# Altium integrated library Diodes - TVS.IntLib: 5379 symbols (part 39 of 122)
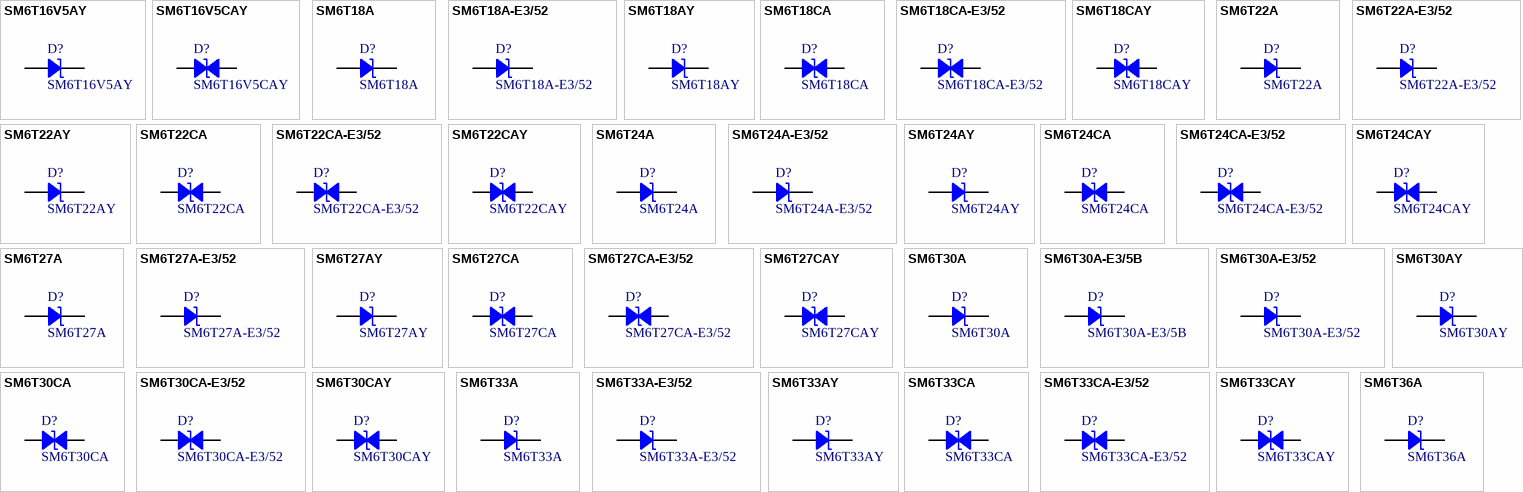
[diagram p172: symbols SM6T16V5AY to SM6T36A]

## SM6T18AY
designator D?
TVS DIODE 15.3V 32.5V SMB; Manufacturer: STMicroelectronics; Current - Peak Pulse (10/1000µs): 123A (8/20µs); Power Line Protection: No; Power - Peak Pulse: 600W; Type: Zener; Unidirectional Channels: 1; Voltage - Breakdown (Min): 17.1V; Part Number: SM6T18AY; Applications: Automotive; ComponentLink1Description: Datasheet; ComponentLink1URL: http://www.st.com/content/ccc/resource/technical/document/datasheet/7c/00/1c/38/a4/c1/4b/ae/CD00279657.pdf/files/CD00279657.pdf/jcr:content/translations/en.CD00279657.pdf; ComponentLink2Description: DigiKey Link; ComponentLink2URL: http://digikey.com/product-detail/en/stmicroelectronics/SM6T18AY/497-10795-1-ND/2442955; LastUpdated: 9/2/2020 1:19:48 AM; Lifecycle Status: Active; Minimum Order: 1; Mounting Type: Surface Mount; Operating Temperature: -55°C ~ 150°C (TJ); Package / Case: DO-214AA, SMB; Packaging: TapeAndReel; PartId: 11002; Part Status: Active; Price: 0.37; Series: Automotive, AEC-Q101, SM6TY, TRANSIL™; Supplier 1: DigiKey; Supplier Part Number 1: 497-10795-1-ND; Supplier Device Package: SMB (DO-214AA); Voltage - Clamping (Max) @ Ipp: 32.5V; Voltage - Reverse Standoff (Typ): 15.3V
footprint DO214AA SMB
pins: 1, 2

## SM6T18CA
designator D?
TVS DIODE 15.3V 32.5V SMB; Manufacturer: STMicroelectronics; Bidirectional Channels: 1; Current - Peak Pulse (10/1000µs): 123A (8/20µs); Power Line Protection: No; Power - Peak Pulse: 600W; Type: Zener; Voltage - Breakdown (Min): 17.1V; Part Number: SM6T18CA; Applications: General Purpose; ComponentLink1Description: Datasheet; ComponentLink1URL: http://www.st.com/content/ccc/resource/technical/document/datasheet/6f/2d/a6/9e/56/51/48/15/CD00000725.pdf/files/CD00000725.pdf/jcr:content/translations/en.CD00000725.pdf; ComponentLink2Description: DigiKey Link; ComponentLink2URL: http://digikey.com/product-detail/en/stmicroelectronics/SM6T18CA/497-3717-1-ND/686435; LastUpdated: 9/2/2020 1:28:17 AM; Lifecycle Status: Active; Minimum Order: 1; Mounting Type: Surface Mount; Operating Temperature: -55°C ~ 150°C (TJ); Package / Case: DO-214AA, SMB; Packaging: TapeAndReel; PartId: 9110; Part Status: Active; Price: 0.16; Series: SM6T, TRANSIL™; Supplier 1: DigiKey; Supplier Part Number 1: 497-3717-1-ND; Supplier Device Package: SMB (DO-214AA); Voltage - Clamping (Max) @ Ipp: 32.5V; Voltage - Reverse Standoff (Typ): 15.3V
footprint DO214AA SMB
pins: 1, 2

## SM6T18CA-E3/52
designator D?
TVS DIODE 15.3V 25.2V DO214AA; Manufacturer: Vishay Semiconductor Diodes Division; Bidirectional Channels: 1; Current - Peak Pulse (10/1000µs): 24A; Power Line Protection: No; Power - Peak Pulse: 600W; Type: Zener; Voltage - Breakdown (Min): 17.1V; Part Number: SM6T18CA-E3/52; Applications: General Purpose; ComponentLink1Description: Datasheet; ComponentLink1URL: http://www.vishay.com/docs/88385/sm6t.pdf; ComponentLink2Description: DigiKey Link; ComponentLink2URL: http://digikey.com/product-detail/en/vishay-semiconductor-diodes-division/SM6T18CA-E3-52/SM6T18CA-E3-52GICT-ND/2413416; LastUpdated: 9/2/2020 1:28:22 AM; Lifecycle Status: Active; Minimum Order: 1; Mounting Type: Surface Mount; Operating Temperature: -65°C ~ 150°C (TJ); Package / Case: DO-214AA, SMB; Packaging: TapeAndReel; PartId: 9684; Part Status: Active; Price: 0.22; Series: SM6T, TransZorb®; Supplier 1: DigiKey; Supplier Part Number 1: SM6T18CA-E3/52GICT-ND; Supplier Device Package: DO-214AA (SMBJ); Voltage - Clamping (Max) @ Ipp: 25.2V; Voltage - Reverse Standoff (Typ): 15.3V
footprint DO214AA SMB
pins: 1, 2

## SM6T18CAY
designator D?
TVS DIODE 15.3V 32.5V SMB; Manufacturer: STMicroelectronics; Bidirectional Channels: 1; Current - Peak Pulse (10/1000µs): 123A (8/20µs); Power Line Protection: No; Power - Peak Pulse: 600W; Type: Zener; Voltage - Breakdown (Min): 17.1V; Part Number: SM6T18CAY; Applications: Automotive; ComponentLink1Description: Datasheet; ComponentLink1URL: http://www.st.com/content/ccc/resource/technical/document/datasheet/7c/00/1c/38/a4/c1/4b/ae/CD00279657.pdf/files/CD00279657.pdf/jcr:content/translations/en.CD00279657.pdf; ComponentLink2Description: DigiKey Link; ComponentLink2URL: http://digikey.com/product-detail/en/stmicroelectronics/SM6T18CAY/497-10796-1-ND/2442964; LastUpdated: 9/2/2020 1:28:21 AM; Lifecycle Status: Active; Minimum Order: 1; Mounting Type: Surface Mount; Operating Temperature: -55°C ~ 150°C (TJ); Package / Case: DO-214AA, SMB; Packaging: TapeAndReel; PartId: 9566; Part Status: Active; Price: 0.39; Series: Automotive, AEC-Q101, SM6TY, TRANSIL™; Supplier 1: DigiKey; Supplier Part Number 1: 497-10796-1-ND; Supplier Device Package: SMB (DO-214AA); Voltage - Clamping (Max) @ Ipp: 32.5V; Voltage - Reverse Standoff (Typ): 15.3V
footprint DO214AA SMB
pins: 1, 2

## SM6T22A
designator D?
TVS DIODE 18.8V 30.6V SMB; Manufacturer: STMicroelectronics; Current - Peak Pulse (10/1000µs): 102A (8/20µs); Power Line Protection: No; Power - Peak Pulse: 600W; Type: Zener; Unidirectional Channels: 1; Voltage - Breakdown (Min): 20.9V; Part Number: SM6T22A; Applications: General Purpose; ComponentLink1Description: Datasheet; ComponentLink1URL: http://www.st.com/content/ccc/resource/technical/document/datasheet/6f/2d/a6/9e/56/51/48/15/CD00000725.pdf/files/CD00000725.pdf/jcr:content/translations/en.CD00000725.pdf; ComponentLink2Description: DigiKey Link; ComponentLink2URL: http://digikey.com/product-detail/en/stmicroelectronics/SM6T22A/497-6491-1-ND/1865480; LastUpdated: 9/2/2020 1:19:49 AM; Lifecycle Status: Active; Minimum Order: 1; Mounting Type: Surface Mount; Operating Temperature: -55°C ~ 150°C (TJ); Package / Case: DO-214AA, SMB; Packaging: TapeAndReel; PartId: 11199; Part Status: Active; Price: 0.15; Series: SM6T, TRANSIL™; Supplier 1: DigiKey; Supplier Part Number 1: 497-6491-1-ND; Supplier Device Package: SMB (DO-214AA); Voltage - Clamping (Max) @ Ipp: 30.6V; Voltage - Reverse Standoff (Typ): 18.8V
footprint DO214AA SMB
pins: 1, 2

## SM6T22A-E3/52
designator D?
TVS DIODE 18.8V 30.6V DO214AA; Manufacturer: Vishay Semiconductor Diodes Division; Current - Peak Pulse (10/1000µs): 20A; Power Line Protection: No; Power - Peak Pulse: 600W; Type: Zener; Unidirectional Channels: 1; Voltage - Breakdown (Min): 20.9V; Part Number: SM6T22A-E3/52; Applications: General Purpose; ComponentLink1Description: Datasheet; ComponentLink1URL: http://www.vishay.com/docs/88385/sm6t.pdf; ComponentLink2Description: DigiKey Link; ComponentLink2URL: http://digikey.com/product-detail/en/vishay-semiconductor-diodes-division/SM6T22A-E3-52/SM6T22A-E3-52GICT-ND/5639132; LastUpdated: 9/2/2020 1:19:43 AM; Lifecycle Status: Active; Minimum Order: 1; Mounting Type: Surface Mount; Operating Temperature: -65°C ~ 150°C (TJ); Package / Case: DO-214AA, SMB; Packaging: TapeAndReel; PartId: 10593; Part Status: Active; Price: 0.19; Series: SM6T, TransZorb®; Supplier 1: DigiKey; Supplier Part Number 1: SM6T22A-E3/52GICT-ND; Supplier Device Package: DO-214AA (SMBJ); Voltage - Clamping (Max) @ Ipp: 30.6V; Voltage - Reverse Standoff (Typ): 18.8V
footprint DO214AA SMB
pins: 1, 2

## SM6T22AY
designator D?
TVS DIODE 18.8V 30.6V SMB; Manufacturer: STMicroelectronics; Current - Peak Pulse (10/1000µs): 102A (8/20µs); Power Line Protection: No; Power - Peak Pulse: 600W; Type: Zener; Unidirectional Channels: 1; Voltage - Breakdown (Min): 20.9V; Part Number: SM6T22AY; Applications: Automotive; ComponentLink1Description: Datasheet; ComponentLink1URL: http://www.st.com/content/ccc/resource/technical/document/datasheet/7c/00/1c/38/a4/c1/4b/ae/CD00279657.pdf/files/CD00279657.pdf/jcr:content/translations/en.CD00279657.pdf; ComponentLink2Description: DigiKey Link; ComponentLink2URL: http://digikey.com/product-detail/en/stmicroelectronics/SM6T22AY/497-10933-1-ND/2522556; LastUpdated: 9/2/2020 1:19:46 AM; Lifecycle Status: Active; Minimum Order: 1; Mounting Type: Surface Mount; Operating Temperature: -55°C ~ 150°C (TJ); Package / Case: DO-214AA, SMB; Packaging: TapeAndReel; PartId: 10815; Part Status: Active; Price: 0.39; Series: Automotive, AEC-Q101, SM6TY, TRANSIL™; Supplier 1: DigiKey; Supplier Part Number 1: 497-10933-1-ND; Supplier Device Package: SMB (DO-214AA); Voltage - Clamping (Max) @ Ipp: 30.6V; Voltage - Reverse Standoff (Typ): 18.8V
footprint DO214AA SMB
pins: 1, 2

## SM6T22CA
designator D?
TVS DIODE 18.8V 30.6V SMB; Manufacturer: STMicroelectronics; Bidirectional Channels: 1; Current - Peak Pulse (10/1000µs): 102A (8/20µs); Power Line Protection: No; Power - Peak Pulse: 600W; Type: Zener; Voltage - Breakdown (Min): 20.9V; Part Number: SM6T22CA; Applications: General Purpose; ComponentLink1Description: Datasheet; ComponentLink1URL: http://www.st.com/content/ccc/resource/technical/document/datasheet/6f/2d/a6/9e/56/51/48/15/CD00000725.pdf/files/CD00000725.pdf/jcr:content/translations/en.CD00000725.pdf; ComponentLink2Description: DigiKey Link; ComponentLink2URL: http://digikey.com/product-detail/en/stmicroelectronics/SM6T22CA/497-3507-1-ND/669350; LastUpdated: 9/2/2020 1:28:21 AM; Lifecycle Status: Active; Minimum Order: 1; Mounting Type: Surface Mount; Operating Temperature: -55°C ~ 150°C (TJ); Package / Case: DO-214AA, SMB; Packaging: TapeAndReel; PartId: 9520; Part Status: Active; Price: 0.16; Series: SM6T, TRANSIL™; Supplier 1: DigiKey; Supplier Part Number 1: 497-3507-1-ND; Supplier Device Package: SMB (DO-214AA); Voltage - Clamping (Max) @ Ipp: 30.6V; Voltage - Reverse Standoff (Typ): 18.8V
footprint DO214AA SMB
pins: 1, 2

## SM6T22CA-E3/52
designator D?
TVS DIODE 18.8V 30.6V DO214AA; Manufacturer: Vishay Semiconductor Diodes Division; Bidirectional Channels: 1; Current - Peak Pulse (10/1000µs): 20A; Power Line Protection: No; Power - Peak Pulse: 600W; Type: Zener; Voltage - Breakdown (Min): 20.9V; Part Number: SM6T22CA-E3/52; Applications: General Purpose; ComponentLink1Description: Datasheet; ComponentLink1URL: http://www.vishay.com/docs/88385/sm6t.pdf; ComponentLink2Description: DigiKey Link; ComponentLink2URL: http://digikey.com/product-detail/en/vishay-semiconductor-diodes-division/SM6T22CA-E3-52/SM6T22CA-E3-52GICT-ND/5639133; LastUpdated: 9/2/2020 1:28:17 AM; Lifecycle Status: Active; Minimum Order: 1; Mounting Type: Surface Mount; Operating Temperature: -65°C ~ 150°C (TJ); Package / Case: DO-214AA, SMB; Packaging: TapeAndReel; PartId: 9021; Part Status: Active; Price: 0.22; Series: SM6T, TransZorb®; Supplier 1: DigiKey; Supplier Part Number 1: SM6T22CA-E3/52GICT-ND; Supplier Device Package: DO-214AA (SMBJ); Voltage - Clamping (Max) @ Ipp: 30.6V; Voltage - Reverse Standoff (Typ): 18.8V
footprint DO214AA SMB
pins: 1, 2

## SM6T22CAY
designator D?
TVS DIODE 18.8V 30.6V SMB; Manufacturer: STMicroelectronics; Bidirectional Channels: 1; Current - Peak Pulse (10/1000µs): 102A (8/20µs); Power Line Protection: No; Power - Peak Pulse: 600W; Type: Zener; Voltage - Breakdown (Min): 20.9V; Part Number: SM6T22CAY; Applications: Automotive; ComponentLink1Description: Datasheet; ComponentLink1URL: http://www.st.com/content/ccc/resource/technical/document/datasheet/7c/00/1c/38/a4/c1/4b/ae/CD00279657.pdf/files/CD00279657.pdf/jcr:content/translations/en.CD00279657.pdf; ComponentLink2Description: DigiKey Link; ComponentLink2URL: http://digikey.com/product-detail/en/stmicroelectronics/SM6T22CAY/497-10934-1-ND/2522557; LastUpdated: 9/2/2020 1:28:21 AM; Lifecycle Status: Active; Minimum Order: 1; Mounting Type: Surface Mount; Operating Temperature: -55°C ~ 150°C (TJ); Package / Case: DO-214AA, SMB; Packaging: TapeAndReel; PartId: 9563; Part Status: Active; Price: 0.41; Series: Automotive, AEC-Q101, SM6TY, TRANSIL™; Supplier 1: DigiKey; Supplier Part Number 1: 497-10934-1-ND; Supplier Device Package: SMB (DO-214AA); Voltage - Clamping (Max) @ Ipp: 30.6V; Voltage - Reverse Standoff (Typ): 18.8V
footprint DO214AA SMB
pins: 1, 2

## SM6T24A
designator D?
TVS DIODE 20.5V 42.8V SMB; Manufacturer: STMicroelectronics; Current - Peak Pulse (10/1000µs): 93A (8/20µs); Power Line Protection: No; Power - Peak Pulse: 600W; Type: Zener; Unidirectional Channels: 1; Voltage - Breakdown (Min): 22.8V; Part Number: SM6T24A; Applications: General Purpose; ComponentLink1Description: Datasheet; ComponentLink1URL: http://www.st.com/content/ccc/resource/technical/document/datasheet/6f/2d/a6/9e/56/51/48/15/CD00000725.pdf/files/CD00000725.pdf/jcr:content/translations/en.CD00000725.pdf; ComponentLink2Description: DigiKey Link; ComponentLink2URL: http://digikey.com/product-detail/en/stmicroelectronics/SM6T24A/497-7433-1-ND/1883435; LastUpdated: 9/2/2020 1:19:47 AM; Lifecycle Status: Active; Minimum Order: 1; Mounting Type: Surface Mount; Operating Temperature: -55°C ~ 150°C (TJ); Package / Case: DO-214AA, SMB; Packaging: TapeAndReel; PartId: 10932; Part Status: Active; Price: 0.15; Series: SM6T, TRANSIL™; Supplier 1: DigiKey; Supplier Part Number 1: 497-7433-1-ND; Supplier Device Package: SMB (DO-214AA); Voltage - Clamping (Max) @ Ipp: 42.8V; Voltage - Reverse Standoff (Typ): 20.5V
footprint DO214AA SMB
pins: 1, 2

## SM6T24A-E3/52
designator D?
TVS DIODE 20.5V 33.2V DO214AA; Manufacturer: Vishay Semiconductor Diodes Division; Current - Peak Pulse (10/1000µs): 18A; Power Line Protection: No; Power - Peak Pulse: 600W; Type: Zener; Unidirectional Channels: 1; Voltage - Breakdown (Min): 22.8V; Part Number: SM6T24A-E3/52; Applications: General Purpose; ComponentLink1Description: Datasheet; ComponentLink1URL: http://www.vishay.com/docs/88385/sm6t.pdf; ComponentLink2Description: DigiKey Link; ComponentLink2URL: http://digikey.com/product-detail/en/vishay-semiconductor-diodes-division/SM6T24A-E3-52/SM6T24A-E3-52GICT-ND/5639134; LastUpdated: 9/2/2020 1:19:45 AM; Lifecycle Status: Active; Minimum Order: 1; Mounting Type: Surface Mount; Operating Temperature: -65°C ~ 150°C (TJ); Package / Case: DO-214AA, SMB; Packaging: TapeAndReel; PartId: 10767; Part Status: Active; Price: 0.19; Series: SM6T, TransZorb®; Supplier 1: DigiKey; Supplier Part Number 1: SM6T24A-E3/52GICT-ND; Supplier Device Package: DO-214AA (SMBJ); Voltage - Clamping (Max) @ Ipp: 33.2V; Voltage - Reverse Standoff (Typ): 20.5V
footprint DO214AA SMB
pins: 1, 2

## SM6T24AY
designator D?
TVS DIODE 20.5V 42.8V SMB; Manufacturer: STMicroelectronics; Current - Peak Pulse (10/1000µs): 93A (8/20µs); Power Line Protection: No; Power - Peak Pulse: 600W; Type: Zener; Unidirectional Channels: 1; Voltage - Breakdown (Min): 22.8V; Part Number: SM6T24AY; Applications: Automotive; ComponentLink1Description: Datasheet; ComponentLink1URL: http://www.st.com/content/ccc/resource/technical/document/datasheet/7c/00/1c/38/a4/c1/4b/ae/CD00279657.pdf/files/CD00279657.pdf/jcr:content/translations/en.CD00279657.pdf; ComponentLink2Description: DigiKey Link; ComponentLink2URL: http://digikey.com/product-detail/en/stmicroelectronics/SM6T24AY/497-10935-1-ND/2522558; LastUpdated: 9/2/2020 1:19:50 AM; Lifecycle Status: Active; Minimum Order: 1; Mounting Type: Surface Mount; Operating Temperature: -55°C ~ 150°C (TJ); Package / Case: DO-214AA, SMB; Packaging: TapeAndReel; PartId: 11276; Part Status: Active; Price: 0.39; Series: Automotive, AEC-Q101, SM6TY, TRANSIL™; Supplier 1: DigiKey; Supplier Part Number 1: 497-10935-1-ND; Supplier Device Package: SMB (DO-214AA); Voltage - Clamping (Max) @ Ipp: 42.8V; Voltage - Reverse Standoff (Typ): 20.5V
footprint DO214AA SMB
pins: 1, 2

## SM6T24CA
designator D?
TVS DIODE 20.5V 42.8V SMB; Manufacturer: STMicroelectronics; Bidirectional Channels: 1; Current - Peak Pulse (10/1000µs): 93A (8/20µs); Power Line Protection: No; Power - Peak Pulse: 600W; Type: Zener; Voltage - Breakdown (Min): 22.8V; Part Number: SM6T24CA; Applications: General Purpose; ComponentLink1Description: Datasheet; ComponentLink1URL: http://www.st.com/content/ccc/resource/technical/document/datasheet/6f/2d/a6/9e/56/51/48/15/CD00000725.pdf/files/CD00000725.pdf/jcr:content/translations/en.CD00000725.pdf; ComponentLink2Description: DigiKey Link; ComponentLink2URL: http://digikey.com/product-detail/en/stmicroelectronics/SM6T24CA/497-7434-1-ND/1883426; LastUpdated: 9/2/2020 1:28:21 AM; Lifecycle Status: Active; Minimum Order: 1; Mounting Type: Surface Mount; Operating Temperature: -55°C ~ 150°C (TJ); Package / Case: DO-214AA, SMB; Packaging: TapeAndReel; PartId: 9470; Part Status: Active; Price: 0.16; Series: SM6T, TRANSIL™; Supplier 1: DigiKey; Supplier Part Number 1: 497-7434-1-ND; Supplier Device Package: SMB (DO-214AA); Voltage - Clamping (Max) @ Ipp: 42.8V; Voltage - Reverse Standoff (Typ): 20.5V
footprint DO214AA SMB
pins: 1, 2

## SM6T24CA-E3/52
designator D?
TVS DIODE 20.5V 33.2V DO214AA; Manufacturer: Vishay Semiconductor Diodes Division; Bidirectional Channels: 1; Current - Peak Pulse (10/1000µs): 18A; Power Line Protection: No; Power - Peak Pulse: 600W; Type: Zener; Voltage - Breakdown (Min): 22.8V; Part Number: SM6T24CA-E3/52; Applications: General Purpose; ComponentLink1Description: Datasheet; ComponentLink1URL: http://www.vishay.com/docs/88385/sm6t.pdf; ComponentLink2Description: DigiKey Link; ComponentLink2URL: http://digikey.com/product-detail/en/vishay-semiconductor-diodes-division/SM6T24CA-E3-52/SM6T24CA-E3-52GICT-ND/5639135; LastUpdated: 9/2/2020 1:28:21 AM; Lifecycle Status: Active; Minimum Order: 1; Mounting Type: Surface Mount; Operating Temperature: -65°C ~ 150°C (TJ); Package / Case: DO-214AA, SMB; Packaging: TapeAndReel; PartId: 9601; Part Status: Active; Price: 0.22; Series: SM6T, TransZorb®; Supplier 1: DigiKey; Supplier Part Number 1: SM6T24CA-E3/52GICT-ND; Supplier Device Package: DO-214AA (SMBJ); Voltage - Clamping (Max) @ Ipp: 33.2V; Voltage - Reverse Standoff (Typ): 20.5V
footprint DO214AA SMB
pins: 1, 2

## SM6T24CAY
designator D?
TVS DIODE 20.5V 42.8V SMB; Manufacturer: STMicroelectronics; Bidirectional Channels: 1; Current - Peak Pulse (10/1000µs): 93A (8/20µs); Power Line Protection: No; Power - Peak Pulse: 600W; Type: Zener; Voltage - Breakdown (Min): 22.8V; Part Number: SM6T24CAY; Applications: Automotive; ComponentLink1Description: Datasheet; ComponentLink1URL: http://www.st.com/content/ccc/resource/technical/document/datasheet/7c/00/1c/38/a4/c1/4b/ae/CD00279657.pdf/files/CD00279657.pdf/jcr:content/translations/en.CD00279657.pdf; ComponentLink2Description: DigiKey Link; ComponentLink2URL: http://digikey.com/product-detail/en/stmicroelectronics/SM6T24CAY/497-10936-1-ND/2522559; LastUpdated: 9/2/2020 1:28:21 AM; Lifecycle Status: Active; Minimum Order: 1; Mounting Type: Surface Mount; Operating Temperature: -55°C ~ 150°C (TJ); Package / Case: DO-214AA, SMB; Packaging: TapeAndReel; PartId: 9558; Part Status: Active; Price: 0.41; Series: Automotive, AEC-Q101, SM6TY, TRANSIL™; Supplier 1: DigiKey; Supplier Part Number 1: 497-10936-1-ND; Supplier Device Package: SMB (DO-214AA); Voltage - Clamping (Max) @ Ipp: 42.8V; Voltage - Reverse Standoff (Typ): 20.5V
footprint DO214AA SMB
pins: 1, 2

## SM6T27A
designator D?
TVS DIODE 23.1V 48.3V SMB; Manufacturer: STMicroelectronics; Current - Peak Pulse (10/1000µs): 83A (8/20µs); Power Line Protection: No; Power - Peak Pulse: 600W; Type: Zener; Unidirectional Channels: 1; Voltage - Breakdown (Min): 25.7V; Part Number: SM6T27A; Applications: General Purpose; ComponentLink1Description: Datasheet; ComponentLink1URL: http://www.st.com/content/ccc/resource/technical/document/datasheet/6f/2d/a6/9e/56/51/48/15/CD00000725.pdf/files/CD00000725.pdf/jcr:content/translations/en.CD00000725.pdf; ComponentLink2Description: DigiKey Link; ComponentLink2URL: http://digikey.com/product-detail/en/stmicroelectronics/SM6T27A/497-7435-1-ND/1883447; LastUpdated: 9/2/2020 1:19:49 AM; Lifecycle Status: Active; Minimum Order: 1; Mounting Type: Surface Mount; Operating Temperature: -55°C ~ 150°C (TJ); Package / Case: DO-214AA, SMB; Packaging: TapeAndReel; PartId: 11196; Part Status: Active; Price: 0.15; Series: SM6T, TRANSIL™; Supplier 1: DigiKey; Supplier Part Number 1: 497-7435-1-ND; Supplier Device Package: SMB (DO-214AA); Voltage - Clamping (Max) @ Ipp: 48.3V; Voltage - Reverse Standoff (Typ): 23.1V
footprint DO214AA SMB
pins: 1, 2

## SM6T27A-E3/52
designator D?
TVS DIODE 23.1V 37.5V DO214AA; Manufacturer: Vishay Semiconductor Diodes Division; Current - Peak Pulse (10/1000µs): 16A; Power Line Protection: No; Power - Peak Pulse: 600W; Type: Zener; Unidirectional Channels: 1; Voltage - Breakdown (Min): 25.7V; Part Number: SM6T27A-E3/52; Applications: General Purpose; ComponentLink1Description: Datasheet; ComponentLink1URL: http://www.vishay.com/docs/88385/sm6t.pdf; ComponentLink2Description: DigiKey Link; ComponentLink2URL: http://digikey.com/product-detail/en/vishay-semiconductor-diodes-division/SM6T27A-E3-52/SM6T27A-E3-52GICT-ND/3847615; LastUpdated: 9/2/2020 1:19:51 AM; Lifecycle Status: Active; Minimum Order: 1; Mounting Type: Surface Mount; Operating Temperature: -65°C ~ 150°C (TJ); Package / Case: DO-214AA, SMB; Packaging: TapeAndReel; PartId: 11327; Part Status: Active; Price: 0.19; Series: SM6T, TransZorb®; Supplier 1: DigiKey; Supplier Part Number 1: SM6T27A-E3/52GICT-ND; Supplier Device Package: DO-214AA (SMBJ); Voltage - Clamping (Max) @ Ipp: 37.5V; Voltage - Reverse Standoff (Typ): 23.1V
footprint DO214AA SMB
pins: 1, 2

## SM6T27AY
designator D?
TVS DIODE 23.1V 48.3V SMB; Manufacturer: STMicroelectronics; Current - Peak Pulse (10/1000µs): 83A (8/20µs); Power Line Protection: No; Power - Peak Pulse: 600W; Type: Zener; Unidirectional Channels: 1; Voltage - Breakdown (Min): 25.7V; Part Number: SM6T27AY; Applications: Automotive; ComponentLink1Description: Datasheet; ComponentLink1URL: http://www.st.com/content/ccc/resource/technical/document/datasheet/7c/00/1c/38/a4/c1/4b/ae/CD00279657.pdf/files/CD00279657.pdf/jcr:content/translations/en.CD00279657.pdf; ComponentLink2Description: DigiKey Link; ComponentLink2URL: http://digikey.com/product-detail/en/stmicroelectronics/SM6T27AY/497-10797-1-ND/2442956; LastUpdated: 9/2/2020 1:19:48 AM; Lifecycle Status: Active; Minimum Order: 1; Mounting Type: Surface Mount; Operating Temperature: -55°C ~ 150°C (TJ); Package / Case: DO-214AA, SMB; Packaging: TapeAndReel; PartId: 11000; Part Status: Active; Price: 0.37; Series: Automotive, AEC-Q101, SM6TY, TRANSIL™; Supplier 1: DigiKey; Supplier Part Number 1: 497-10797-1-ND; Supplier Device Package: SMB (DO-214AA); Voltage - Clamping (Max) @ Ipp: 48.3V; Voltage - Reverse Standoff (Typ): 23.1V
footprint DO214AA SMB
pins: 1, 2

## SM6T27CA
designator D?
TVS DIODE 23.1V 48.3V SMB; Manufacturer: STMicroelectronics; Bidirectional Channels: 1; Current - Peak Pulse (10/1000µs): 83A (8/20µs); Power Line Protection: No; Power - Peak Pulse: 600W; Type: Zener; Voltage - Breakdown (Min): 25.7V; Part Number: SM6T27CA; Applications: General Purpose; ComponentLink1Description: Datasheet; ComponentLink1URL: http://www.st.com/content/ccc/resource/technical/document/datasheet/6f/2d/a6/9e/56/51/48/15/CD00000725.pdf/files/CD00000725.pdf/jcr:content/translations/en.CD00000725.pdf; ComponentLink2Description: DigiKey Link; ComponentLink2URL: http://digikey.com/product-detail/en/stmicroelectronics/SM6T27CA/497-7436-1-ND/1883352; LastUpdated: 9/2/2020 1:28:16 AM; Lifecycle Status: Active; Minimum Order: 1; Mounting Type: Surface Mount; Operating Temperature: -55°C ~ 150°C (TJ); Package / Case: DO-214AA, SMB; Packaging: TapeAndReel; PartId: 8960; Part Status: Active; Price: 0.16; Series: SM6T, TRANSIL™; Supplier 1: DigiKey; Supplier Part Number 1: 497-7436-1-ND; Supplier Device Package: SMB (DO-214AA); Voltage - Clamping (Max) @ Ipp: 48.3V; Voltage - Reverse Standoff (Typ): 23.1V
footprint DO214AA SMB
pins: 1, 2

## SM6T27CA-E3/52
designator D?
TVS DIODE 23.1V 37.5V DO214AA; Manufacturer: Vishay Semiconductor Diodes Division; Bidirectional Channels: 1; Current - Peak Pulse (10/1000µs): 16A; Power Line Protection: No; Power - Peak Pulse: 600W; Type: Zener; Voltage - Breakdown (Min): 25.7V; Part Number: SM6T27CA-E3/52; Applications: General Purpose; ComponentLink1Description: Datasheet; ComponentLink1URL: http://www.vishay.com/docs/88385/sm6t.pdf; ComponentLink2Description: DigiKey Link; ComponentLink2URL: http://digikey.com/product-detail/en/vishay-semiconductor-diodes-division/SM6T27CA-E3-52/SM6T27CA-E3-52GICT-ND/5639136; LastUpdated: 9/2/2020 1:28:22 AM; Lifecycle Status: Active; Minimum Order: 1; Mounting Type: Surface Mount; Operating Temperature: -65°C ~ 150°C (TJ); Package / Case: DO-214AA, SMB; Packaging: TapeAndReel; PartId: 9683; Part Status: Active; Price: 0.22; Series: SM6T, TransZorb®; Supplier 1: DigiKey; Supplier Part Number 1: SM6T27CA-E3/52GICT-ND; Supplier Device Package: DO-214AA (SMBJ); Voltage - Clamping (Max) @ Ipp: 37.5V; Voltage - Reverse Standoff (Typ): 23.1V
footprint DO214AA SMB
pins: 1, 2

## SM6T27CAY
designator D?
TVS DIODE 23.1V 48.3V SMB; Manufacturer: STMicroelectronics; Bidirectional Channels: 1; Current - Peak Pulse (10/1000µs): 83A (8/20µs); Power Line Protection: No; Power - Peak Pulse: 600W; Type: Zener; Voltage - Breakdown (Min): 25.7V; Part Number: SM6T27CAY; Applications: Automotive; ComponentLink1Description: Datasheet; ComponentLink1URL: http://www.st.com/content/ccc/resource/technical/document/datasheet/7c/00/1c/38/a4/c1/4b/ae/CD00279657.pdf/files/CD00279657.pdf/jcr:content/translations/en.CD00279657.pdf; ComponentLink2Description: DigiKey Link; ComponentLink2URL: http://digikey.com/product-detail/en/stmicroelectronics/SM6T27CAY/497-10798-1-ND/2442946; LastUpdated: 9/2/2020 1:28:22 AM; Lifecycle Status: Active; Minimum Order: 1; Mounting Type: Surface Mount; Operating Temperature: -55°C ~ 150°C (TJ); Package / Case: DO-214AA, SMB; Packaging: TapeAndReel; PartId: 9676; Part Status: Active; Price: 0.39; Series: Automotive, AEC-Q101, SM6TY, TRANSIL™; Supplier 1: DigiKey; Supplier Part Number 1: 497-10798-1-ND; Supplier Device Package: SMB (DO-214AA); Voltage - Clamping (Max) @ Ipp: 48.3V; Voltage - Reverse Standoff (Typ): 23.1V
footprint DO214AA SMB
pins: 1, 2

## SM6T30A
designator D?
TVS DIODE 25.6V 53.5V SMB; Manufacturer: STMicroelectronics; Current - Peak Pulse (10/1000µs): 75A (8/20µs); Power Line Protection: No; Power - Peak Pulse: 600W; Type: Zener; Unidirectional Channels: 1; Voltage - Breakdown (Min): 28.5V; Part Number: SM6T30A; Applications: General Purpose; ComponentLink1Description: Datasheet; ComponentLink1URL: http://www.st.com/content/ccc/resource/technical/document/datasheet/6f/2d/a6/9e/56/51/48/15/CD00000725.pdf/files/CD00000725.pdf/jcr:content/translations/en.CD00000725.pdf; ComponentLink2Description: DigiKey Link; ComponentLink2URL: http://digikey.com/product-detail/en/stmicroelectronics/SM6T30A/497-7437-1-ND/1883441; LastUpdated: 9/2/2020 1:19:49 AM; Lifecycle Status: Active; Minimum Order: 1; Mounting Type: Surface Mount; Operating Temperature: -55°C ~ 150°C (TJ); Package / Case: DO-214AA, SMB; Packaging: TapeAndReel; PartId: 11197; Part Status: Active; Price: 0.15; Series: SM6T, TRANSIL™; Supplier 1: DigiKey; Supplier Part Number 1: 497-7437-1-ND; Supplier Device Package: SMB (DO-214AA); Voltage - Clamping (Max) @ Ipp: 53.5V; Voltage - Reverse Standoff (Typ): 25.6V
footprint DO214AA SMB
pins: 1, 2

## SM6T30A-E3/5B
designator D?
TVS DIODE 25.6V 41.5V DO214AA; Manufacturer: Vishay Semiconductor Diodes Division; Current - Peak Pulse (10/1000µs): 14.5A; Power Line Protection: No; Power - Peak Pulse: 600W; Type: Zener; Unidirectional Channels: 1; Voltage - Breakdown (Min): 28.5V; Part Number: SM6T30A-E3/5B; Applications: General Purpose; ComponentLink1Description: Datasheet; ComponentLink1URL: http://www.vishay.com/docs/88385/sm6t.pdf; ComponentLink2Description: DigiKey Link; ComponentLink2URL: http://digikey.com/product-detail/en/vishay-semiconductor-diodes-division/SM6T30A-E3-5B/SM6T30A-E3-5BGICT-ND/9600941; LastUpdated: 9/2/2020 1:19:49 AM; Lifecycle Status: Active; Minimum Order: 1; Mounting Type: Surface Mount; Operating Temperature: -65°C ~ 150°C (TJ); Package / Case: DO-214AA, SMB; Packaging: TapeAndReel; PartId: 11183; Part Status: Active; Price: 0.13; Series: SM6T, TransZorb®; Supplier 1: DigiKey; Supplier Part Number 1: SM6T30A-E3/5BGICT-ND; Supplier Device Package: DO-214AA (SMBJ); Voltage - Clamping (Max) @ Ipp: 41.5V; Voltage - Reverse Standoff (Typ): 25.6V
footprint DO214AA SMB
pins: 1, 2

## SM6T30A-E3/52
designator D?
TVS DIODE 25.6V 41.5V DO214AA; Manufacturer: Vishay Semiconductor Diodes Division; Current - Peak Pulse (10/1000µs): 14.5A; Power Line Protection: No; Power - Peak Pulse: 600W; Type: Zener; Unidirectional Channels: 1; Voltage - Breakdown (Min): 28.5V; Part Number: SM6T30A-E3/52; Applications: General Purpose; ComponentLink1Description: Datasheet; ComponentLink1URL: http://www.vishay.com/docs/88385/sm6t.pdf; ComponentLink2Description: DigiKey Link; ComponentLink2URL: http://digikey.com/product-detail/en/vishay-semiconductor-diodes-division/SM6T30A-E3-52/SM6T30A-E3-52GICT-ND/5639137; LastUpdated: 9/2/2020 1:19:43 AM; Lifecycle Status: Active; Minimum Order: 1; Mounting Type: Surface Mount; Operating Temperature: -65°C ~ 150°C (TJ); Package / Case: DO-214AA, SMB; Packaging: TapeAndReel; PartId: 10596; Part Status: Active; Price: 0.19; Series: SM6T, TransZorb®; Supplier 1: DigiKey; Supplier Part Number 1: SM6T30A-E3/52GICT-ND; Supplier Device Package: DO-214AA (SMBJ); Voltage - Clamping (Max) @ Ipp: 41.5V; Voltage - Reverse Standoff (Typ): 25.6V
footprint DO214AA SMB
pins: 1, 2

## SM6T30AY
designator D?
TVS DIODE 25.6V 53.5V SMB; Manufacturer: STMicroelectronics; Current - Peak Pulse (10/1000µs): 75A (8/20µs); Power Line Protection: No; Power - Peak Pulse: 600W; Type: Zener; Unidirectional Channels: 1; Voltage - Breakdown (Min): 28.5V; Part Number: SM6T30AY; Applications: Automotive; ComponentLink1Description: Datasheet; ComponentLink1URL: http://www.st.com/content/ccc/resource/technical/document/datasheet/7c/00/1c/38/a4/c1/4b/ae/CD00279657.pdf/files/CD00279657.pdf/jcr:content/translations/en.CD00279657.pdf; ComponentLink2Description: DigiKey Link; ComponentLink2URL: http://digikey.com/product-detail/en/stmicroelectronics/SM6T30AY/497-10799-1-ND/2442949; LastUpdated: 9/2/2020 1:19:48 AM; Lifecycle Status: Active; Minimum Order: 1; Mounting Type: Surface Mount; Operating Temperature: -55°C ~ 150°C (TJ); Package / Case: DO-214AA, SMB; Packaging: TapeAndReel; PartId: 11004; Part Status: Active; Price: 0.37; Series: Automotive, AEC-Q101, SM6TY, TRANSIL™; Supplier 1: DigiKey; Supplier Part Number 1: 497-10799-1-ND; Supplier Device Package: SMB (DO-214AA); Voltage - Clamping (Max) @ Ipp: 53.5V; Voltage - Reverse Standoff (Typ): 25.6V
footprint DO214AA SMB
pins: 1, 2

## SM6T30CA
designator D?
TVS DIODE 25.6V 53.5V SMB; Manufacturer: STMicroelectronics; Bidirectional Channels: 1; Current - Peak Pulse (10/1000µs): 75A (8/20µs); Power Line Protection: No; Power - Peak Pulse: 600W; Type: Zener; Voltage - Breakdown (Min): 28.5V; Part Number: SM6T30CA; Applications: General Purpose; ComponentLink1Description: Datasheet; ComponentLink1URL: http://www.st.com/content/ccc/resource/technical/document/datasheet/6f/2d/a6/9e/56/51/48/15/CD00000725.pdf/files/CD00000725.pdf/jcr:content/translations/en.CD00000725.pdf; ComponentLink2Description: DigiKey Link; ComponentLink2URL: http://digikey.com/product-detail/en/stmicroelectronics/SM6T30CA/497-6492-1-ND/1865479; LastUpdated: 9/2/2020 1:28:21 AM; Lifecycle Status: Active; Minimum Order: 1; Mounting Type: Surface Mount; Operating Temperature: -55°C ~ 150°C (TJ); Package / Case: DO-214AA, SMB; Packaging: TapeAndReel; PartId: 9521; Part Status: Active; Price: 0.16; Series: SM6T, TRANSIL™; Supplier 1: DigiKey; Supplier Part Number 1: 497-6492-1-ND; Supplier Device Package: SMB (DO-214AA); Voltage - Clamping (Max) @ Ipp: 53.5V; Voltage - Reverse Standoff (Typ): 25.6V
footprint DO214AA SMB
pins: 1, 2

## SM6T30CA-E3/52
designator D?
TVS DIODE 25.6V 41.5V DO214AA; Manufacturer: Vishay Semiconductor Diodes Division; Bidirectional Channels: 1; Current - Peak Pulse (10/1000µs): 14.5A; Power Line Protection: No; Power - Peak Pulse: 600W; Type: Zener; Voltage - Breakdown (Min): 28.5V; Part Number: SM6T30CA-E3/52; Applications: General Purpose; ComponentLink1Description: Datasheet; ComponentLink1URL: http://www.vishay.com/docs/88385/sm6t.pdf; ComponentLink2Description: DigiKey Link; ComponentLink2URL: http://digikey.com/product-detail/en/vishay-semiconductor-diodes-division/SM6T30CA-E3-52/SM6T30CA-E3-52GICT-ND/5639138; LastUpdated: 9/2/2020 1:28:17 AM; Lifecycle Status: Active; Minimum Order: 1; Mounting Type: Surface Mount; Operating Temperature: -65°C ~ 150°C (TJ); Package / Case: DO-214AA, SMB; Packaging: TapeAndReel; PartId: 9022; Part Status: Active; Price: 0.22; Series: SM6T, TransZorb®; Supplier 1: DigiKey; Supplier Part Number 1: SM6T30CA-E3/52GICT-ND; Supplier Device Package: DO-214AA (SMBJ); Voltage - Clamping (Max) @ Ipp: 41.5V; Voltage - Reverse Standoff (Typ): 25.6V
footprint DO214AA SMB
pins: 1, 2

## SM6T30CAY
designator D?
TVS DIODE 25.6V 53.5V SMB; Manufacturer: STMicroelectronics; Bidirectional Channels: 1; Current - Peak Pulse (10/1000µs): 75A (8/20µs); Power Line Protection: No; Power - Peak Pulse: 600W; Type: Zener; Voltage - Breakdown (Min): 28.5V; Part Number: SM6T30CAY; Applications: Automotive; ComponentLink1Description: Datasheet; ComponentLink1URL: http://www.st.com/content/ccc/resource/technical/document/datasheet/7c/00/1c/38/a4/c1/4b/ae/CD00279657.pdf/files/CD00279657.pdf/jcr:content/translations/en.CD00279657.pdf; ComponentLink2Description: DigiKey Link; ComponentLink2URL: http://digikey.com/product-detail/en/stmicroelectronics/SM6T30CAY/497-10800-1-ND/2442951; LastUpdated: 9/2/2020 1:28:20 AM; Lifecycle Status: Active; Minimum Order: 1; Mounting Type: Surface Mount; Operating Temperature: -55°C ~ 150°C (TJ); Package / Case: DO-214AA, SMB; Packaging: TapeAndReel; PartId: 9436; Part Status: Active; Price: 0.15; Series: Automotive, AEC-Q101, SM6TY, TRANSIL™; Supplier 1: DigiKey; Supplier Part Number 1: 497-10800-1-ND; Supplier Device Package: SMB (DO-214AA); Voltage - Clamping (Max) @ Ipp: 53.5V; Voltage - Reverse Standoff (Typ): 25.6V
footprint DO214AA SMB
pins: 1, 2

## SM6T33A
designator D?
TVS DIODE 28.2V 59V SMB; Manufacturer: STMicroelectronics; Current - Peak Pulse (10/1000µs): 68A (8/20µs); Power Line Protection: No; Power - Peak Pulse: 600W; Type: Zener; Unidirectional Channels: 1; Voltage - Breakdown (Min): 31.4V; Part Number: SM6T33A; Applications: General Purpose; ComponentLink1Description: Datasheet; ComponentLink1URL: http://www.st.com/content/ccc/resource/technical/document/datasheet/6f/2d/a6/9e/56/51/48/15/CD00000725.pdf/files/CD00000725.pdf/jcr:content/translations/en.CD00000725.pdf; ComponentLink2Description: DigiKey Link; ComponentLink2URL: http://digikey.com/product-detail/en/stmicroelectronics/SM6T33A/497-6493-1-ND/1865477; LastUpdated: 9/2/2020 1:19:49 AM; Lifecycle Status: Active; Minimum Order: 1; Mounting Type: Surface Mount; Operating Temperature: -55°C ~ 150°C (TJ); Package / Case: DO-214AA, SMB; Packaging: TapeAndReel; PartId: 11098; Part Status: Active; Price: 0.15; Series: SM6T, TRANSIL™; Supplier 1: DigiKey; Supplier Part Number 1: 497-6493-1-ND; Supplier Device Package: SMB (DO-214AA); Voltage - Clamping (Max) @ Ipp: 59V; Voltage - Reverse Standoff (Typ): 28.2V
footprint DO214AA SMB
pins: 1, 2

## SM6T33A-E3/52
designator D?
TVS DIODE 28.2V 45.7V DO214AA; Manufacturer: Vishay Semiconductor Diodes Division; Current - Peak Pulse (10/1000µs): 13.1A; Power Line Protection: No; Power - Peak Pulse: 600W; Type: Zener; Unidirectional Channels: 1; Voltage - Breakdown (Min): 31.4V; Part Number: SM6T33A-E3/52; Applications: General Purpose; ComponentLink1Description: Datasheet; ComponentLink1URL: http://www.vishay.com/docs/88385/sm6t.pdf; ComponentLink2Description: DigiKey Link; ComponentLink2URL: http://digikey.com/product-detail/en/vishay-semiconductor-diodes-division/SM6T33A-E3-52/SM6T33A-E3-52GICT-ND/5639139; LastUpdated: 9/2/2020 1:19:48 AM; Lifecycle Status: Active; Minimum Order: 1; Mounting Type: Surface Mount; Operating Temperature: -65°C ~ 150°C (TJ); Package / Case: DO-214AA, SMB; Packaging: TapeAndReel; PartId: 11021; Part Status: Active; Price: 0.19; Series: SM6T, TransZorb®; Supplier 1: DigiKey; Supplier Part Number 1: SM6T33A-E3/52GICT-ND; Supplier Device Package: DO-214AA (SMBJ); Voltage - Clamping (Max) @ Ipp: 45.7V; Voltage - Reverse Standoff (Typ): 28.2V
footprint DO214AA SMB
pins: 1, 2

## SM6T33AY
designator D?
TVS DIODE 28.2V 59V SMB; Manufacturer: STMicroelectronics; Current - Peak Pulse (10/1000µs): 68A (8/20µs); Power Line Protection: No; Power - Peak Pulse: 600W; Type: Zener; Unidirectional Channels: 1; Voltage - Breakdown (Min): 31.4V; Part Number: SM6T33AY; Applications: Automotive; ComponentLink1Description: Datasheet; ComponentLink1URL: http://www.st.com/content/ccc/resource/technical/document/datasheet/7c/00/1c/38/a4/c1/4b/ae/CD00279657.pdf/files/CD00279657.pdf/jcr:content/translations/en.CD00279657.pdf; ComponentLink2Description: DigiKey Link; ComponentLink2URL: http://digikey.com/product-detail/en/stmicroelectronics/SM6T33AY/497-10801-1-ND/2442953; LastUpdated: 9/2/2020 1:19:49 AM; Lifecycle Status: Active; Minimum Order: 1; Mounting Type: Surface Mount; Operating Temperature: -55°C ~ 150°C (TJ); Package / Case: DO-214AA, SMB; Packaging: TapeAndReel; PartId: 11163; Part Status: Active; Price: 0.16; Series: Automotive, AEC-Q101, SM6TY, TRANSIL™; Supplier 1: DigiKey; Supplier Part Number 1: 497-10801-1-ND; Supplier Device Package: SMB (DO-214AA); Voltage - Clamping (Max) @ Ipp: 59V; Voltage - Reverse Standoff (Typ): 28.2V
footprint DO214AA SMB
pins: 1, 2

## SM6T33CA
designator D?
TVS DIODE 28.2V 59V SMB; Manufacturer: STMicroelectronics; Bidirectional Channels: 1; Current - Peak Pulse (10/1000µs): 68A (8/20µs); Power Line Protection: No; Power - Peak Pulse: 600W; Type: Zener; Voltage - Breakdown (Min): 31.4V; Part Number: SM6T33CA; Applications: General Purpose; ComponentLink1Description: Datasheet; ComponentLink1URL: http://www.st.com/content/ccc/resource/technical/document/datasheet/6f/2d/a6/9e/56/51/48/15/CD00000725.pdf/files/CD00000725.pdf/jcr:content/translations/en.CD00000725.pdf; ComponentLink2Description: DigiKey Link; ComponentLink2URL: http://digikey.com/product-detail/en/stmicroelectronics/SM6T33CA/497-6494-1-ND/1865472; LastUpdated: 9/2/2020 1:28:20 AM; Lifecycle Status: Active; Minimum Order: 1; Mounting Type: Surface Mount; Operating Temperature: -55°C ~ 150°C (TJ); Package / Case: DO-214AA, SMB; Packaging: TapeAndReel; PartId: 9439; Part Status: Active; Price: 0.14; Series: SM6T, TRANSIL™; Supplier 1: DigiKey; Supplier Part Number 1: 497-6494-1-ND; Supplier Device Package: SMB (DO-214AA); Voltage - Clamping (Max) @ Ipp: 59V; Voltage - Reverse Standoff (Typ): 28.2V
footprint DO214AA SMB
pins: 1, 2

## SM6T33CA-E3/52
designator D?
TVS DIODE 28.2V 45.7V DO214AA; Manufacturer: Vishay Semiconductor Diodes Division; Bidirectional Channels: 1; Current - Peak Pulse (10/1000µs): 13.1A; Power Line Protection: No; Power - Peak Pulse: 600W; Type: Zener; Voltage - Breakdown (Min): 31.4V; Part Number: SM6T33CA-E3/52; Applications: General Purpose; ComponentLink1Description: Datasheet; ComponentLink1URL: http://www.vishay.com/docs/88385/sm6t.pdf; ComponentLink2Description: DigiKey Link; ComponentLink2URL: http://digikey.com/product-detail/en/vishay-semiconductor-diodes-division/SM6T33CA-E3-52/SM6T33CA-E3-52GICT-ND/3847616; LastUpdated: 9/2/2020 1:28:17 AM; Lifecycle Status: Active; Minimum Order: 1; Mounting Type: Surface Mount; Operating Temperature: -65°C ~ 150°C (TJ); Package / Case: DO-214AA, SMB; Packaging: TapeAndReel; PartId: 9103; Part Status: Active; Price: 0.21; Series: SM6T, TransZorb®; Supplier 1: DigiKey; Supplier Part Number 1: SM6T33CA-E3/52GICT-ND; Supplier Device Package: DO-214AA (SMBJ); Voltage - Clamping (Max) @ Ipp: 45.7V; Voltage - Reverse Standoff (Typ): 28.2V
footprint DO214AA SMB
pins: 1, 2

## SM6T33CAY
designator D?
TVS DIODE 28.2V 59V SMB; Manufacturer: STMicroelectronics; Bidirectional Channels: 1; Current - Peak Pulse (10/1000µs): 68A (8/20µs); Power Line Protection: No; Power - Peak Pulse: 600W; Type: Zener; Voltage - Breakdown (Min): 31.4V; Part Number: SM6T33CAY; Applications: Automotive; ComponentLink1Description: Datasheet; ComponentLink1URL: http://www.st.com/content/ccc/resource/technical/document/datasheet/7c/00/1c/38/a4/c1/4b/ae/CD00279657.pdf/files/CD00279657.pdf/jcr:content/translations/en.CD00279657.pdf; ComponentLink2Description: DigiKey Link; ComponentLink2URL: http://digikey.com/product-detail/en/stmicroelectronics/SM6T33CAY/497-10802-1-ND/2442967; LastUpdated: 9/2/2020 1:28:17 AM; Lifecycle Status: Active; Minimum Order: 1; Mounting Type: Surface Mount; Operating Temperature: -55°C ~ 150°C (TJ); Package / Case: DO-214AA, SMB; Packaging: TapeAndReel; PartId: 9076; Part Status: Active; Price: 0.31; Series: Automotive, AEC-Q101, SM6TY, TRANSIL™; Supplier 1: DigiKey; Supplier Part Number 1: 497-10802-1-ND; Supplier Device Package: SMB (DO-214AA); Voltage - Clamping (Max) @ Ipp: 59V; Voltage - Reverse Standoff (Typ): 28.2V
footprint DO214AA SMB
pins: 1, 2

## SM6T36A
designator D?
TVS DIODE 30.8V 64.3V SMB; Manufacturer: STMicroelectronics; Current - Peak Pulse (10/1000µs): 62A (8/20µs); Power Line Protection: No; Power - Peak Pulse: 600W; Type: Zener; Unidirectional Channels: 1; Voltage - Breakdown (Min): 34.2V; Part Number: SM6T36A; Applications: General Purpose; ComponentLink1Description: Datasheet; ComponentLink1URL: http://www.st.com/content/ccc/resource/technical/document/datasheet/6f/2d/a6/9e/56/51/48/15/CD00000725.pdf/files/CD00000725.pdf/jcr:content/translations/en.CD00000725.pdf; ComponentLink2Description: DigiKey Link; ComponentLink2URL: http://digikey.com/product-detail/en/stmicroelectronics/SM6T36A/497-6495-1-ND/1865474; LastUpdated: 9/2/2020 1:19:49 AM; Lifecycle Status: Active; Minimum Order: 1; Mounting Type: Surface Mount; Operating Temperature: -55°C ~ 150°C (TJ); Package / Case: DO-214AA, SMB; Packaging: TapeAndReel; PartId: 11128; Part Status: Active; Price: 0.14; Series: SM6T, TRANSIL™; Supplier 1: DigiKey; Supplier Part Number 1: 497-6495-1-ND; Supplier Device Package: SMB (DO-214AA); Voltage - Clamping (Max) @ Ipp: 64.3V; Voltage - Reverse Standoff (Typ): 30.8V
footprint DO214AA SMB
pins: 1, 2

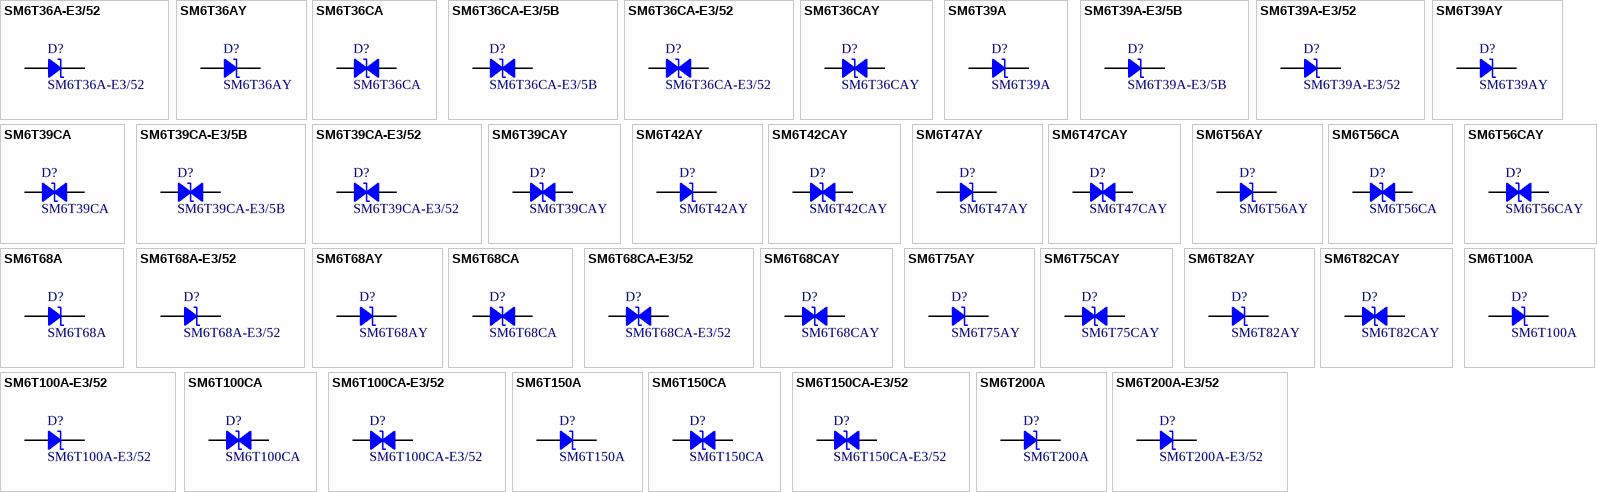
[diagram p43: symbols SM6T36A-E3/52 to SM6T200A-E3/52]

## SM6T36A-E3/52
designator D?
TVS DIODE 30.8V 49.9V DO214AA; Manufacturer: Vishay Semiconductor Diodes Division; Current - Peak Pulse (10/1000µs): 12A; Power Line Protection: No; Power - Peak Pulse: 600W; Type: Zener; Unidirectional Channels: 1; Voltage - Breakdown (Min): 34.2V; Part Number: SM6T36A-E3/52; Applications: General Purpose; ComponentLink1Description: Datasheet; ComponentLink1URL: http://www.vishay.com/docs/88385/sm6t.pdf; ComponentLink2Description: DigiKey Link; ComponentLink2URL: http://digikey.com/product-detail/en/vishay-semiconductor-diodes-division/SM6T36A-E3-52/SM6T36A-E3-52GICT-ND/3711942; LastUpdated: 9/2/2020 1:19:45 AM; Lifecycle Status: Active; Minimum Order: 1; Mounting Type: Surface Mount; Operating Temperature: -65°C ~ 150°C (TJ); Package / Case: DO-214AA, SMB; Packaging: TapeAndReel; PartId: 10768; Part Status: Active; Price: 0.19; Series: SM6T, TransZorb®; Supplier 1: DigiKey; Supplier Part Number 1: SM6T36A-E3/52GICT-ND; Supplier Device Package: DO-214AA (SMBJ); Voltage - Clamping (Max) @ Ipp: 49.9V; Voltage - Reverse Standoff (Typ): 30.8V
footprint DO214AA SMB
pins: 1, 2

## SM6T36AY
designator D?
TVS DIODE 30.8V 64.3V SMB; Manufacturer: STMicroelectronics; Current - Peak Pulse (10/1000µs): 62A (8/20µs); Power Line Protection: No; Power - Peak Pulse: 600W; Type: Zener; Unidirectional Channels: 1; Voltage - Breakdown (Min): 34.2V; Part Number: SM6T36AY; Applications: Automotive; ComponentLink1Description: Datasheet; ComponentLink1URL: http://www.st.com/content/ccc/resource/technical/document/datasheet/7c/00/1c/38/a4/c1/4b/ae/CD00279657.pdf/files/CD00279657.pdf/jcr:content/translations/en.CD00279657.pdf; ComponentLink2Description: DigiKey Link; ComponentLink2URL: http://digikey.com/product-detail/en/stmicroelectronics/SM6T36AY/497-10803-1-ND/2442961; LastUpdated: 9/2/2020 1:19:48 AM; Lifecycle Status: Active; Minimum Order: 1; Mounting Type: Surface Mount; Operating Temperature: -55°C ~ 150°C (TJ); Package / Case: DO-214AA, SMB; Packaging: TapeAndReel; PartId: 11001; Part Status: Active; Price: 0.37; Series: Automotive, AEC-Q101, SM6TY, TRANSIL™; Supplier 1: DigiKey; Supplier Part Number 1: 497-10803-1-ND; Supplier Device Package: SMB (DO-214AA); Voltage - Clamping (Max) @ Ipp: 64.3V; Voltage - Reverse Standoff (Typ): 30.8V
footprint DO214AA SMB
pins: 1, 2

## SM6T36CA
designator D?
TVS DIODE 30.8V 64.3V SMB; Manufacturer: STMicroelectronics; Bidirectional Channels: 1; Current - Peak Pulse (10/1000µs): 62A (8/20µs); Power Line Protection: No; Power - Peak Pulse: 600W; Type: Zener; Voltage - Breakdown (Min): 34.2V; Part Number: SM6T36CA; Applications: General Purpose; ComponentLink1Description: Datasheet; ComponentLink1URL: http://www.st.com/content/ccc/resource/technical/document/datasheet/6f/2d/a6/9e/56/51/48/15/CD00000725.pdf/files/CD00000725.pdf/jcr:content/translations/en.CD00000725.pdf; ComponentLink2Description: DigiKey Link; ComponentLink2URL: http://digikey.com/product-detail/en/stmicroelectronics/SM6T36CA/497-6496-1-ND/1865473; LastUpdated: 9/2/2020 1:28:21 AM; Lifecycle Status: Active; Minimum Order: 1; Mounting Type: Surface Mount; Operating Temperature: -55°C ~ 150°C (TJ); Package / Case: DO-214AA, SMB; Packaging: TapeAndReel; PartId: 9524; Part Status: Active; Price: 0.16; Series: SM6T, TRANSIL™; Supplier 1: DigiKey; Supplier Part Number 1: 497-6496-1-ND; Supplier Device Package: SMB (DO-214AA); Voltage - Clamping (Max) @ Ipp: 64.3V; Voltage - Reverse Standoff (Typ): 30.8V
footprint DO214AA SMB
pins: 1, 2

## SM6T36CA-E3/5B
designator D?
TVS DIODE 30.8V 49.9V DO214AA; Manufacturer: Vishay Semiconductor Diodes Division; Bidirectional Channels: 1; Current - Peak Pulse (10/1000µs): 12A; Power Line Protection: No; Power - Peak Pulse: 600W; Type: Zener; Voltage - Breakdown (Min): 34.2V; Part Number: SM6T36CA-E3/5B; Applications: General Purpose; ComponentLink1Description: Datasheet; ComponentLink1URL: http://www.vishay.com/docs/88385/sm6t.pdf; ComponentLink2Description: DigiKey Link; ComponentLink2URL: http://digikey.com/product-detail/en/vishay-semiconductor-diodes-division/SM6T36CA-E3-5B/SM6T36CA-E3-5BGICT-ND/9600944; LastUpdated: 9/2/2020 1:28:19 AM; Lifecycle Status: Active; Minimum Order: 1; Mounting Type: Surface Mount; Operating Temperature: -65°C ~ 150°C (TJ); Package / Case: DO-214AA, SMB; Packaging: TapeAndReel; PartId: 9321; Part Status: Active; Price: 0.14; Series: SM6T, TransZorb®; Supplier 1: DigiKey; Supplier Part Number 1: SM6T36CA-E3/5BGICT-ND; Supplier Device Package: DO-214AA (SMBJ); Voltage - Clamping (Max) @ Ipp: 49.9V; Voltage - Reverse Standoff (Typ): 30.8V
footprint DO214AA SMB
pins: 1, 2

## SM6T36CA-E3/52
designator D?
TVS DIODE 30.8V 49.9V DO214AA; Manufacturer: Vishay Semiconductor Diodes Division; Bidirectional Channels: 1; Current - Peak Pulse (10/1000µs): 12A; Power Line Protection: No; Power - Peak Pulse: 600W; Type: Zener; Voltage - Breakdown (Min): 34.2V; Part Number: SM6T36CA-E3/52; Applications: General Purpose; ComponentLink1Description: Datasheet; ComponentLink1URL: http://www.vishay.com/docs/88385/sm6t.pdf; ComponentLink2Description: DigiKey Link; ComponentLink2URL: http://digikey.com/product-detail/en/vishay-semiconductor-diodes-division/SM6T36CA-E3-52/SM6T36CA-E3-52GICT-ND/3847617; LastUpdated: 9/2/2020 1:28:16 AM; Lifecycle Status: Active; Minimum Order: 1; Mounting Type: Surface Mount; Operating Temperature: -65°C ~ 150°C (TJ); Package / Case: DO-214AA, SMB; Packaging: TapeAndReel; PartId: 8923; Part Status: Active; Price: 0.21; Series: SM6T, TransZorb®; Supplier 1: DigiKey; Supplier Part Number 1: SM6T36CA-E3/52GICT-ND; Supplier Device Package: DO-214AA (SMBJ); Voltage - Clamping (Max) @ Ipp: 49.9V; Voltage - Reverse Standoff (Typ): 30.8V
footprint DO214AA SMB
pins: 1, 2

## SM6T36CAY
designator D?
TVS DIODE 30.8V 64.3V SMB; Manufacturer: STMicroelectronics; Bidirectional Channels: 1; Current - Peak Pulse (10/1000µs): 62A (8/20µs); Power Line Protection: No; Power - Peak Pulse: 600W; Type: Zener; Voltage - Breakdown (Min): 34.2V; Part Number: SM6T36CAY; Applications: Automotive; ComponentLink1Description: Datasheet; ComponentLink1URL: http://www.st.com/content/ccc/resource/technical/document/datasheet/7c/00/1c/38/a4/c1/4b/ae/CD00279657.pdf/files/CD00279657.pdf/jcr:content/translations/en.CD00279657.pdf; ComponentLink2Description: DigiKey Link; ComponentLink2URL: http://digikey.com/product-detail/en/stmicroelectronics/SM6T36CAY/497-10804-1-ND/2442960; LastUpdated: 9/2/2020 1:28:17 AM; Lifecycle Status: Active; Minimum Order: 1; Mounting Type: Surface Mount; Operating Temperature: -55°C ~ 150°C (TJ); Package / Case: DO-214AA, SMB; Packaging: TapeAndReel; PartId: 9075; Part Status: Active; Price: 0.39; Series: Automotive, AEC-Q101, SM6TY, TRANSIL™; Supplier 1: DigiKey; Supplier Part Number 1: 497-10804-1-ND; Supplier Device Package: SMB (DO-214AA); Voltage - Clamping (Max) @ Ipp: 64.3V; Voltage - Reverse Standoff (Typ): 30.8V
footprint DO214AA SMB
pins: 1, 2